# Altium schematic symbol library ISO1050.Schlib: 1 symbol
Pins are listed as number, name and electrical type; pins without a type are passive.

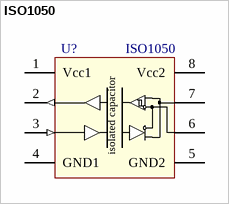
[diagram p0: symbol ISO1050]

## ISO1050
designator U?
Isolated CAN Transceiver; Назначение: Изолированный CAN приемник; Наименование: ISO1050
footprint SO-8
pins: 1 Vcc1, 2 RXD (out), 3 TXD (in), 4 GND1, 5 GND2, 6 cl "CAN LOW", 7 ch "CAN HIGHT", 8 Vcc2
text: isolated capacitor